# EAGLE library part ICND2046 (library pimoroni-ics)
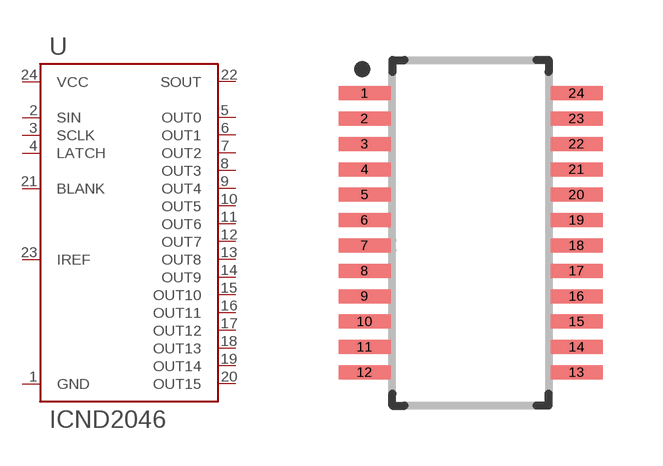
[diagram p168: symbol with the pads of SSOP24-150MIL; footprint SSOP24-150MIL]

Designator prefix U

## ICND2046  [SSOP24-150MIL]
1  GND
2  SIN
3  SCLK
4  LATCH
5  OUT0
6  OUT1
7  OUT2
8  OUT3
9  OUT4
10  OUT5
11  OUT6
12  OUT7
13  OUT8
14  OUT9
15  OUT10
16  OUT11
17  OUT12
18  OUT13
19  OUT14
20  OUT15
21  BLANK
22  SOUT
23  IREF
24  VCC

## Footprint SSOP24-150MIL (pad centres in mm)
smd 1.3 x 0.35: 1 -2.65,3.493; 2 -2.65,2.857; 3 -2.65,2.223; 4 -2.65,1.587; 5 -2.65,0.953; 6 -2.65,0.318; 7 -2.65,-0.318; 8 -2.65,-0.953; 9 -2.65,-1.587; 10 -2.65,-2.223; 11 -2.65,-2.857; 12 -2.65,-3.493; 13 2.65,-3.493; 14 2.65,-2.857; 15 2.65,-2.223; 16 2.65,-1.587; 17 2.65,-0.953; 18 2.65,-0.318; 19 2.65,0.318; 20 2.65,0.953; 21 2.65,1.587; 22 2.65,2.223; 23 2.65,2.857; 24 2.65,3.493